# Altium footprint library led_2835_rectangle_49point9X2point6cm.PcbLib: 3 footprints
Each footprint in its own frame and in the unit in brackets; x right, y up, seen from the top. Pads: shape width x height; smd on the part's side, far side on the other; paste and mask are expansions set on the pad; w line width, h text height; cw(c..) or ccw(c..) is an arc to the next point about the centre after c.
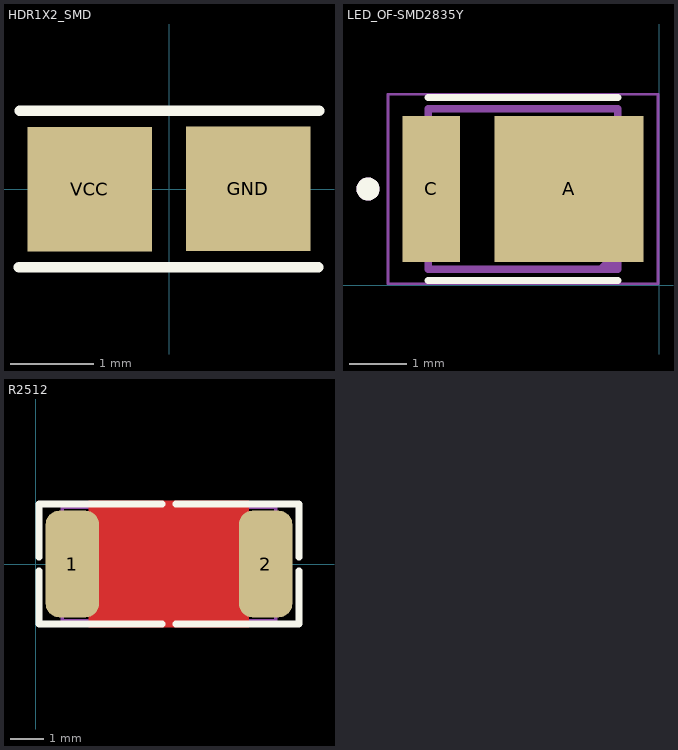
[diagram p0: the footprints below, top view; thin cyan lines are the x and y axes]

## HDR1X2_SMD [mm] "Connector; Header; 2 Position"
pads (2):
  rect 1.5x1.5 smd: GND(0.955,0.004) VCC(-0.955,-0.004)
Top Overlay:
  lines w0.127: -1.808,-0.942 1.8,-0.942 ; -1.8,0.942 1.808,0.942

## LED_OF-SMD2835Y [mm]
pads (2):
  rect 2.6x2.55 smd: A(-1.575,1.675)
  rect 1x2.55 smd: C(-3.975,1.675)
Top Overlay:
  circle w0.2: c-5.075,1.675 r0.1
  lines w0.127: -4.025,0.08 -0.725,0.08 ; -4.025,3.27 -0.725,3.27
Mechanical 13:
  circle w0.2: c-5.075,1.675 r0.1
  lines w0.127: -1.025,0.275 -0.925,0.275 ; -1.025,0.275 -4.025,0.275 -4.025,3.075 -0.725,3.075 -0.725,0.575 ; -1.025,0.275 -0.725,0.575 ; -0.925,0.275 -0.725,0.275 -0.725,0.475 ; -0.925,0.275 -0.725,0.475 ; -0.725,0.475 -0.725,0.575
Mechanical 15:
  lines w0.05: -4.725,0.025 -0.025,0.025 -0.025,3.325 -4.725,3.325 -4.725,0.025

## R2512 [mm] "CHIP RESISTOR 1 WATT, 6.4X3.2mm, 2512, 6432"
height 1
pads (2):
  rrect50% 1.6x3.2 smd: 1(1.1,0) 2(6.9,0)
Top Layer:
  pour cut-out: 1.6,1.9 6.4,1.9 6.4,-1.9 1.6,-1.9
Top Overlay:
  lines w0.2: 0.1,-0.2 0.1,-1.8 3.8,-1.8 ; 0.1,0.2 0.1,1.8 3.8,1.8 ; 4.2,-1.8 7.9,-1.8 7.9,-0.2 ; 4.2,1.8 7.9,1.8 7.9,0.2
Mechanical 13:
  lines w0.1: 0.8,-1.7 0.8,1.7 7.2,1.7 7.2,-1.7 0.8,-1.7
3D body "User Library-2512 SMD Resistor.step": height 1.6, standoff 0, extent 0.825,-1.5 7.175,1.5